# Altium schematic symbol library TSL25911FN.Schlib: 1 symbol
Pins are listed as number, name and electrical type; pins without a type are passive.

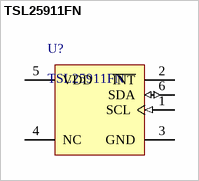
[diagram p0: symbol TSL25911FN]

## TSL25911FN
designator U?
Light-to-Digital Converter with I2C Interface, 2.7 to 3.6 V, -30 to 70 degC, FN-6, Pb-Free, Reel; Manufacturer: AMS; Supply Voltage (V): 2.7 - 3.6; Maximum Lux: 88K; Interface: I2C - Vdd; Programmable: Gain, Integration Time, Interrupt; ComponentLink1Description: Manufacturer URL; ComponentLink2Description: Datasheet; Mounting Technology: Surface Mount; ComponentLink1URL: www.ams.com; PackageVersion: TAOS059Q, 11/2009; PartNumber: TSL25911FN; PackageReference: FN-6; PackageDescription: 6-Pin Dual Flat No-Lead, 2.4 x 2 mm Body, 0.65 mm Pitch; ComponentLink2URL: http://www.ams.com/eng/content/download/389383/1251117/221235
footprint AMS-FN-6-2400X2000DE_V (SON, 6-Leads, Body 2.4x2mm, Pitch 0.65mm)
pins: 1 SCL (in) "I2C serial clock input terminal", 2 ~{INT} (oc) "Interrupt - open drain output (active low).", 3 GND (power) "Power supply ground. All voltages are referenced to GND.", 4 NC "No connect - do not connect", 5 VDD (power) "Supply voltage", 6 SDA (io) "I2C serial data I/O terminal"